# Altium schematic symbol library symbol_lib.SchLib: 16 symbols
Pins are listed as number, name and electrical type; pins without a type are passive.

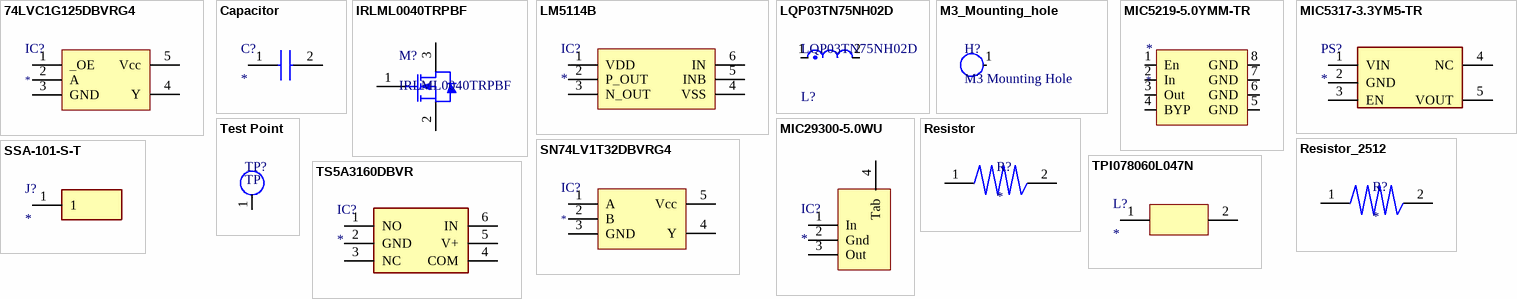
[diagram p0: symbols 74LVC1G125DBVRG4 to TS5A3160DBVR]

## 74LVC1G125DBVRG4
designator IC?
Supplier 1: Mouser; Supplier Part Number 1: 595-74LVC1G125DBVRG4
footprint SOT-23-5
pins: 1 _OE, 2 A, 3 GND, 4 Y, 5 Vcc

## Capacitor
designator C?
Capacitor
footprint 0603
pins: 1, 2

## IRLML0040TRPBF
designator M?
HEXFET(R) Power MOSFET, 40 V, -55 to 150 degC, 3-Pin SOT-23, RoHS, Tape and Reel; Manufacturer: International Rectifier; Minimum Gate Threshold Voltage: 1V; Transistor Configuration: Single; Typical Turn-Off Delay Time: 6.4ns; Maximum Gate Threshold Voltage: 2.5V; Channel Type: N; Maximum Gate Source Voltage: ±16V; Channel Mode: Enhancement; Number of Elements per Chip: 1; Maximum Continuous Drain Current: 3.6A; Typical Turn-On Delay Time: 5.1ns; Transistor Material: Si; Typical Input Capacitance @ Vds: 266pF@25V; Maximum Drain Source Resistance: 0.056Ω; Typical Gate Charge @ Vgs: 2.6nC@4.5V; Maximum Power Dissipation: 1.3W; Maximum Drain Source Voltage: 40V; Length: 3.04mm; Height: 1.02mm; Category: PowerMOSFET; Width: 1.4mm; Package Description: 3-Pin Small Outline Transistor, Body 2.92 x 1.3 mm, Pitch 0.95 mm; Pin Count: 3; Package Reference: SOT-23; Datasheet Version: 02/2012; Package Type: SOT-23; Manufacturer URL: http://internationalrectifier.com/; Mounting Technology: SurfaceMount; Dimensions: 3.04x1.4x1.02mm; Maximum Operating Temperature: +150°C; Minimum Operating Temperature: -55°C; Datasheet URL: https://datasheet.ciiva.com/22709/irlml0040pbf-22709201.pdf; Mounting Type: SurfaceMount
footprint SOT-23 (SOT23, 3-Leads, Body 3.04x1.4mm, Pitch 0.95mm)
pins: 1 G, 2 S, 3 D

## LM5114B
designator IC?
footprint SOT-23-6
pins: 1 VDD, 2 P_OUT, 3 N_OUT, 4 VSS, 5 INB, 6 IN

## LQP03TN75NH02D
designator L?
Film type RF Inductor 75nH ±3% 100mA 10Ω 0201 (0603); Shielding: Unshielded; Self Resonant Frequency: 1GHz; Core Material: Non-Magnetic; DC Resistance (DCR): 10R; Test Frequency: 300MHz; Q Factor: 8; Termination: SMD/SMT; Max DC Current: 100mA; Mount: Surface Mount; Width: 0.012inch; Max Operating Temperature: 125°C; Packaging: Tape and Reel; Current Rating: 100mA; Weight: 6E-06oz; RoHS Compliant: Yes; Min Operating Temperature: -55°C; Case/Package: 0201; Resistor Type: Thin Film; Inductance: 75nH; Tolerance: 3%; Package Quantity: 15000; Height: 0.3mm; Case Code (Imperial): 0201; Case Code (Metric): 0603; Length: 0.024inch; Height - Seated (Max): 0.013inch; Supplier 1: Digi-Key; Supplier Part Number 1: 490-13018-1-ND
footprint FP-LQP03PN_02-IPC_A
pins: 1, 2

## M3_Mounting_hole
designator H?, comment M3 Mounting Hole
footprint M3 Hole
pins: 1

## MIC5219-5.0YMM-TR
designator *
footprint MSOP-8_MS
pins: 1 En, 2 In, 3 Out, 4 BYP, 5 GND, 6 GND, 7 GND, 8 GND

## MIC5317-3.3YM5-TR
designator PS?
Power Supply; Manufacturer_Name: Microchip; Manufacturer_Part_Number: MIC5317-3.3YM5-TR; Datasheet Link: https://componentsearchengine.com//MIC5317-3.3YM5-TR.pdf; Height: 1mm; Mouser2 Part Number: 998-MIC5317-3.3YM5TR; Mouser2 Price/Stock: https://www.mouser.com/Search/Refine.aspx?Keyword=998-MIC5317-3.3YM5TR
footprint SOT-23-5
pins: 1 VIN, 2 GND, 3 EN, 4 NC, 5 VOUT

## MIC29300-5.0WU
designator IC?
Supplier 1: Digi-Key; Supplier Part Number 1: 576-1122-ND
footprint TO-263-3
pins: 1 In, 2 Gnd, 3 Out, 4 Tab

## Resistor
designator R?
Resistor
footprint 0603
pins: 1, 2

## Resistor_2512
designator R?
Resistor
footprint 2512
pins: 1, 2

## SN74LV1T32DBVRG4
designator IC?
Supplier 1: Mouser; Supplier Part Number 1: 595-SN74LV1T32DBVRG4
footprint SOT-23-5
pins: 1 A, 2 B, 3 GND, 4 Y, 5 Vcc

## SSA-101-S-T
designator J?
Connector; Manufacturer_Name: SAMTEC; Manufacturer_Part_Number: SSA-101-S-T; Datasheet Link: http://suddendocs.samtec.com/prints/ssas-mkt.pdf
footprint SSA-101-S-X
pins: 1

## Test Point
designator TP?, comment TP  (value not drawn)  (no BOM)
Test Point 1mm by 1mm
footprint Test Point
pins: 1 TP

## TPI078060L047N
designator L?
Supplier 1: Digi-Key; Supplier Part Number 1: 399-TPI078060L047NCT-ND
footprint TPI078060L047N
pins: 1, 2

## TS5A3160DBVR
designator IC?
Integrated Circuit; Manufacturer_Name: Texas Instruments; Manufacturer_Part_Number: TS5A3160DBVR; Datasheet Link: http://www.ti.com/lit/gpn/ts5a3160; Height: 1.45mm; Mouser2 Part Number: 595-TS5A3160DBVR; Mouser2 Price/Stock: https://www.mouser.com/Search/Refine.aspx?Keyword=595-TS5A3160DBVR
footprint SOT-23-6
pins: 1 NO, 2 GND, 3 NC, 4 COM, 5 V+, 6 IN